# EAGLE library part CD74HC243M (library tide_clock)
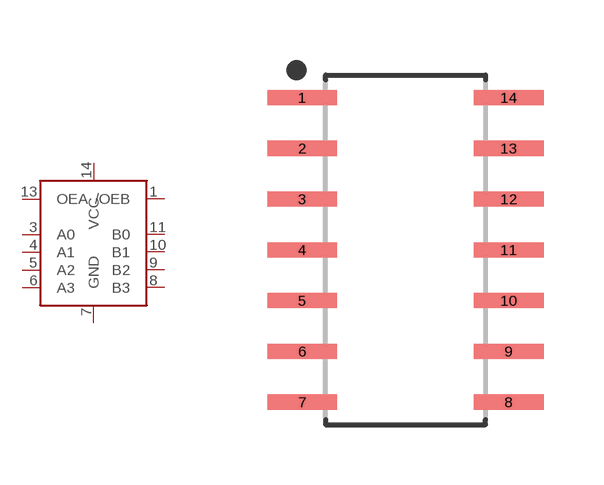
[diagram p2: symbol with the pads of SOIC-14; footprint SOIC-14]

Designator prefix -

## CD74HC243M  [SOIC-14]
1  /OEB
3  A0
4  A1
5  A2
6  A3
7  GND
8  B3
9  B2
10  B1
11  B0
13  OEA
14  VCC

## Footprint SOIC-14 (pad centres in mm)
14-SOIC, 1.27 mm pitch, 6.00 mm span, 8.65 X 3.90 X 1.75 mm body 14-pin SOIC package with 1.27 mm pitch, 6.00 mm span with body size 8.65 X 3.90 X 1.75 mm
smd 1.746 x 0.377: 1 -2.585,3.81; 2 -2.585,2.54; 3 -2.585,1.27; 4 -2.585,0; 5 -2.585,-1.27; 6 -2.585,-2.54; 7 -2.585,-3.81; 8 2.585,-3.81; 9 2.585,-2.54; 10 2.585,-1.27; 11 2.585,0; 12 2.585,1.27; 13 2.585,2.54; 14 2.585,3.81